# EAGLE library part PN532 (library ERNW_parts)
NXP PN532 HVQFN40 NFC Chip Data Sheet @ http://www.nxp.com/documents/short_data_sheet/PN532_SDS.pdf
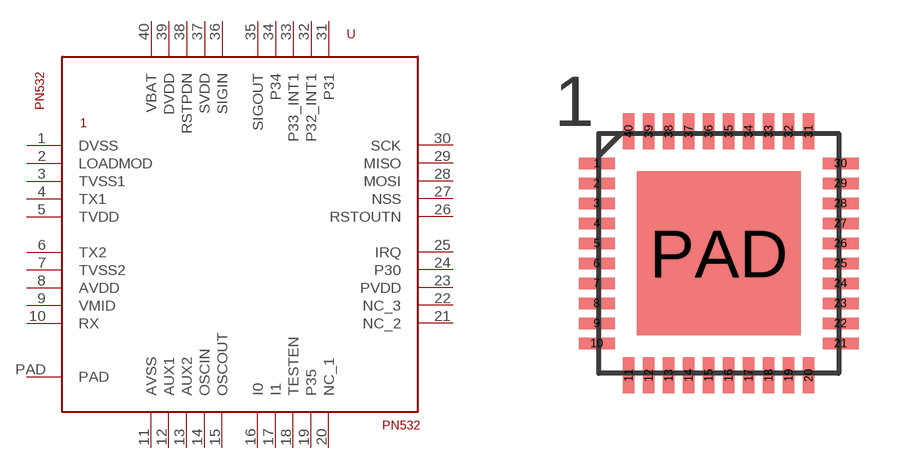
[diagram p2: symbol with the pads of HVQFN40; footprint HVQFN40]

Designator prefix -

## PN532  [HVQFN40]
1  DVSS
2  LOADMOD
3  TVSS1
4  TX1
5  TVDD
6  TX2
7  TVSS2
8  AVDD
9  VMID
10  RX
11  AVSS
12  AUX1
13  AUX2
14  OSCIN
15  OSCOUT
16  I0
17  I1
18  TESTEN
19  P35
20  NC_1
21  NC_2
22  NC_3
23  PVDD
24  P30
25  IRQ
26  RSTOUTN
27  NSS
28  MOSI
29  MISO
30  SCK
31  P31
32  P32_INT1
33  P33_INT1
34  P34
35  SIGOUT
36  SIGIN
37  SVDD
38  RSTPDN
39  DVDD
40  VBAT
PAD  PAD

## Footprint HVQFN40 (pad centres in mm)
smd 0.9 x 0.29: 1 -3.05,2.25; 2 -3.05,1.75; 3 -3.05,1.25; 4 -3.05,0.75; 5 -3.05,0.25; 6 -3.05,-0.25; 7 -3.05,-0.75; 8 -3.05,-1.25; 9 -3.05,-1.75; 10 -3.05,-2.25; 21 3.05,-2.25; 22 3.05,-1.75; 23 3.05,-1.25; 24 3.05,-0.75; 25 3.05,-0.25; 26 3.05,0.25; 27 3.05,0.75; 28 3.05,1.25; 29 3.05,1.75; 30 3.05,2.25
smd 0.29 x 0.9: 11 -2.25,-3.05; 12 -1.75,-3.05; 13 -1.25,-3.05; 14 -0.75,-3.05; 15 -0.25,-3.05; 16 0.25,-3.05; 17 0.75,-3.05; 18 1.25,-3.05; 19 1.75,-3.05; 20 2.25,-3.05; 31 2.25,3.05; 32 1.75,3.05; 33 1.25,3.05; 34 0.75,3.05; 35 0.25,3.05; 36 -0.25,3.05; 37 -0.75,3.05; 38 -1.25,3.05; 39 -1.75,3.05; 40 -2.25,3.05
smd 4.1 x 4.1: PAD 0,0